# EAGLE library part UART (library multicopter)
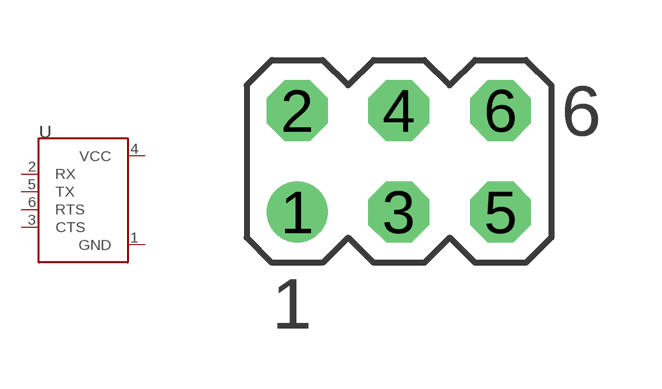
[diagram p1: symbol with the pads of MA03-2; footprint MA03-2]

Designator prefix -

## UART  [MA03-2]
1  GND
2  RX
3  CTS
4  VCC
5  TX
6  RTS

## Footprint MA03-2 (pad centres in mm)
PIN HEADER
drill 1.016: 1 -2.54,-1.27
drill 1.016 octagon: 2 -2.54,1.27; 3 0,-1.27; 4 0,1.27; 5 2.54,-1.27; 6 2.54,1.27